# Altium footprint library Button_Switch_SMD.PcbLib: 169 footprints (part 4 of 12)
Each footprint in its own frame and in the unit in brackets; x right, y up, seen from the top. Pads: shape width x height; smd on the part's side, far side on the other; paste and mask are expansions set on the pad; w line width, h text height; cw(c..) or ccw(c..) is an arc to the next point about the centre after c.
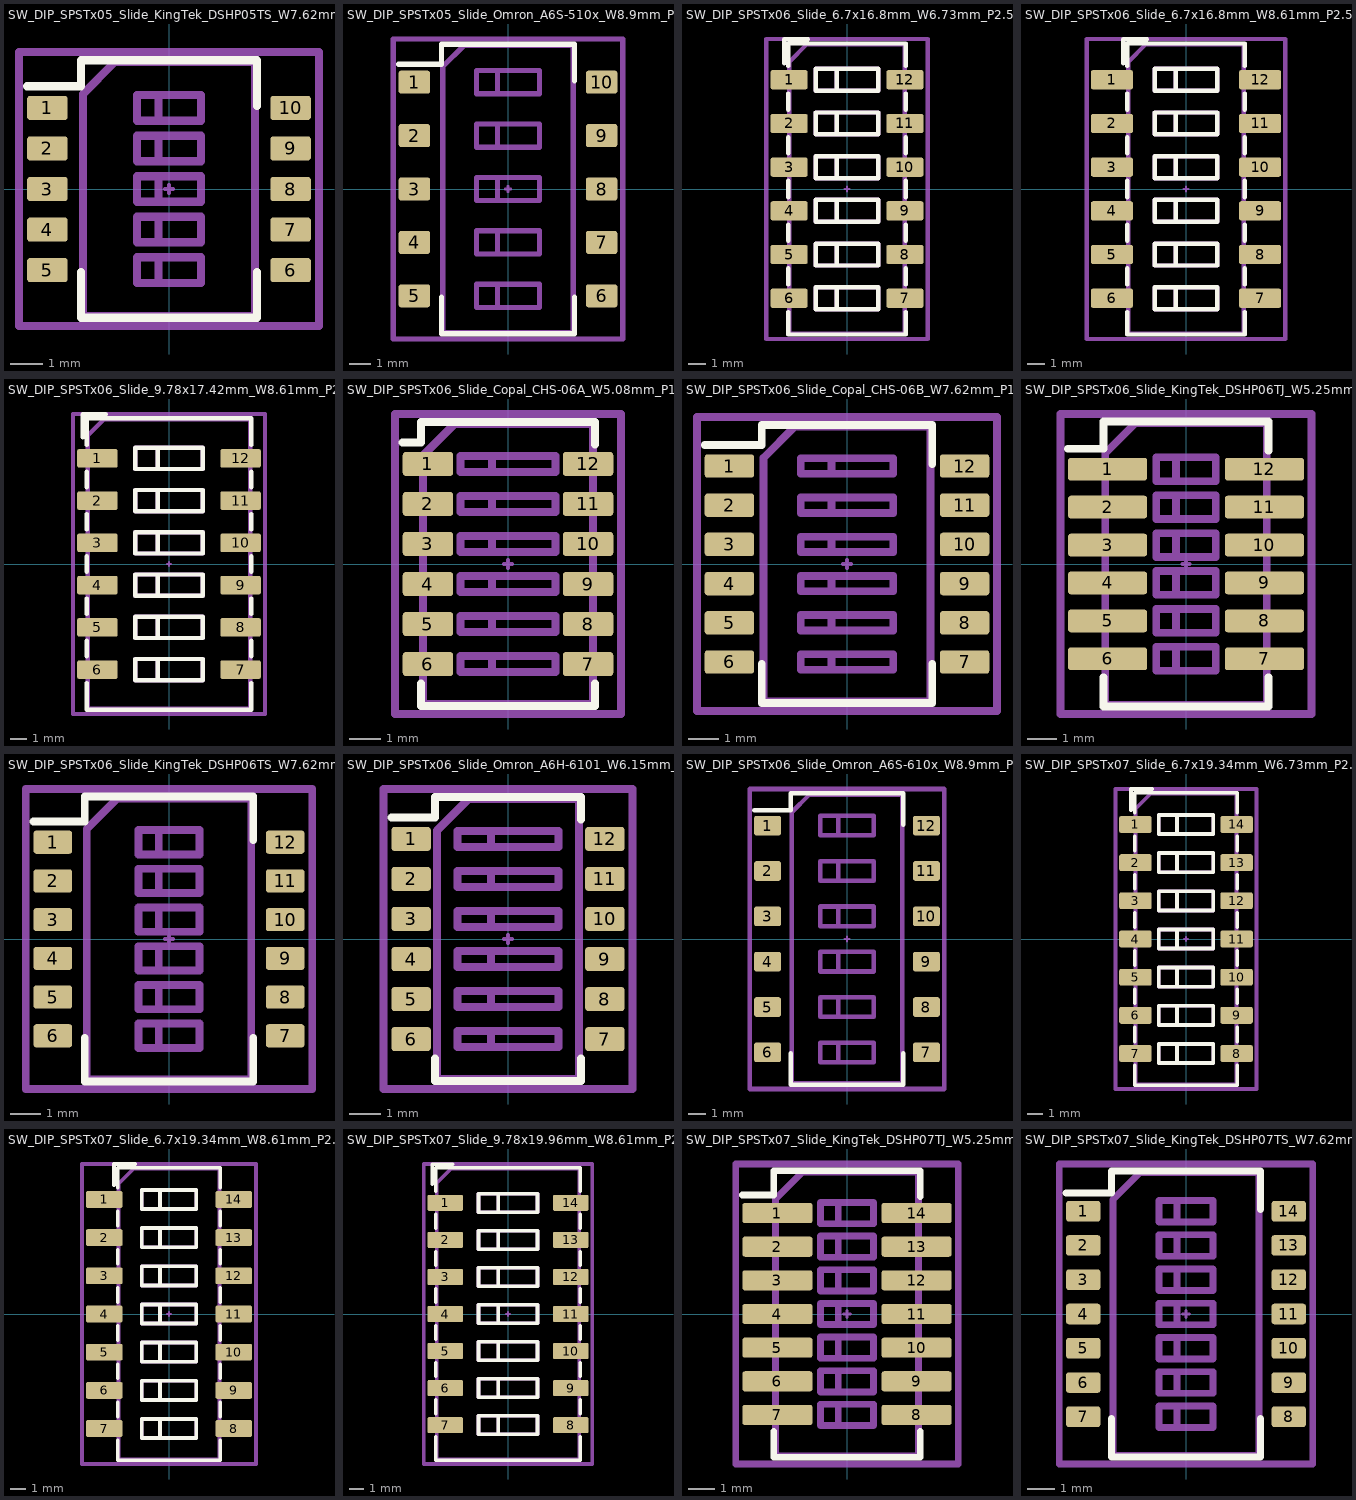
[diagram p3: the footprints below, top view; thin cyan lines are the x and y axes]

## SW_DIP_SPSTx05_Slide_KingTek_DSHP05TS_W7.62mm_P1.27mm [mm] "SW_DIP_SPSTx05_Slide_KingTek_DSHP05TS_W7.62mm_P1.27mm"
pads (10):
  rrect25% 1.27x0.76 smd: 1(-3.81,2.54) 2(-3.81,1.27) 3(-3.81,0) 4(-3.81,-1.27) 5(-3.81,-2.54) 6(3.81,-2.54) 7(3.81,-1.27) 8(3.81,0) 9(3.81,1.27) 10(3.81,2.54)
F.SilkS:
  lines w0.254: -4.445,3.22 -2.76,3.22 -2.76,4.035 2.76,4.035 2.76,2.6 ; -2.76,-2.6 -2.76,-4.035 2.76,-4.035 2.76,-2.6
Top Component Center:
  lines w0.127: -0.127,0 0.127,0 ; 0,-0.127 0,0.127
Top Assembly:
  lines w0.254: -1,-2.94 -1,-2.14 ; -1,-2.94 -0.333,-2.94 ; -1,-2.94 -1,-2.14 ; -1,-2.94 1,-2.94 1,-2.14 -1,-2.14 ; -1,-2.14 -0.333,-2.14 ; -1,-1.67 -1,-0.87 ; -1,-1.67 -0.333,-1.67 ; -1,-1.67 -1,-0.87 ; -1,-1.67 1,-1.67 1,-0.87 -1,-0.87 ; -1,-0.87 -0.333,-0.87 ; -1,-0.4 -1,0.4 ; -1,-0.4 -0.333,-0.4 ; -1,-0.4 -1,0.4 ; -1,-0.4 1,-0.4 1,0.4 -1,0.4 ; -1,0.4 -0.333,0.4 ; -1,0.87 -1,1.67 ; -1,0.87 -0.333,0.87 ; -1,0.87 -1,1.67 ; -1,0.87 1,0.87 1,1.67 -1,1.67 ; -1,1.67 -0.333,1.67 ; -1,2.14 -1,2.94 ; -1,2.14 -0.333,2.14 ; -1,2.14 -1,2.94 ; -1,2.14 1,2.14 1,2.94 -1,2.94 ; -1,2.94 -0.333,2.94 ; -0.333,-2.94 -0.333,-2.14 ; -0.333,-2.94 -0.333,-2.14 ; -0.333,-1.67 -0.333,-0.87 ; -0.333,-1.67 -0.333,-0.87 ; -0.333,-0.4 -0.333,0.4 ; -0.333,-0.4 -0.333,0.4 ; -0.333,0.87 -0.333,1.67 ; -0.333,0.87 -0.333,1.67 ; -0.333,2.14 -0.333,2.94 ; -0.333,2.14 -0.333,2.94 ; -2.7,-3.975 -2.7,2.975 -1.7,3.975 2.7,3.975 2.7,-3.975 -2.7,-3.975
  text "on" at -0.72,3.071 h0.8
Top Courtyard:
  lines w0.254: -4.7,-4.29 -4.7,4.29 4.7,4.29 4.7,-4.29 -4.7,-4.29
Top Designator:
  text ".Designator" at -1.56,-3.559 h1.52
3D body "SW_DIP_SPSTx05_Slide_KingTek_DSHP05TS_W7.62mm_P1.27mm.step": height 2.45, standoff 0.08, extent -3.975,-4.175 3.975,4.175

## SW_DIP_SPSTx05_Slide_Omron_A6S-510x_W8.9mm_P2.54mm [mm] "SW_DIP_SPSTx05_Slide_Omron_A6S-510x_W8.9mm_P2.54mm"
pads (10):
  rrect23% 1.5x1.1 smd: 1(-4.45,5.08) 2(-4.45,2.54) 3(-4.45,0) 4(-4.45,-2.54) 5(-4.45,-5.08) 6(4.45,-5.08) 7(4.45,-2.54) 8(4.45,0) 9(4.45,2.54) 10(4.45,5.08)
F.SilkS:
  lines w0.254: -5.2,5.93 -3.16,5.93 -3.16,6.88 3.16,6.88 3.16,5.14 ; -3.16,-5.14 -3.16,-6.88 3.16,-6.88 3.16,-5.14
Top Component Center:
  lines w0.127: -0.127,0 0.127,0 ; 0,-0.127 0,0.127
Top Assembly:
  lines w0.254: -1.5,-5.63 1.5,-5.63 1.5,-4.53 -1.5,-4.53 ; -1.5,-5.63 -1.5,-4.53 ; -1.5,-5.63 -0.5,-5.63 ; -1.5,-5.63 -1.5,-4.53 ; -1.5,-4.53 -0.5,-4.53 ; -1.5,-3.09 1.5,-3.09 1.5,-1.99 -1.5,-1.99 ; -1.5,-3.09 -1.5,-1.99 ; -1.5,-3.09 -0.5,-3.09 ; -1.5,-3.09 -1.5,-1.99 ; -1.5,-1.99 -0.5,-1.99 ; -1.5,-0.55 1.5,-0.55 1.5,0.55 -1.5,0.55 ; -1.5,-0.55 -1.5,0.55 ; -1.5,-0.55 -0.5,-0.55 ; -1.5,-0.55 -1.5,0.55 ; -1.5,0.55 -0.5,0.55 ; -1.5,1.99 1.5,1.99 1.5,3.09 -1.5,3.09 ; -1.5,1.99 -1.5,3.09 ; -1.5,1.99 -0.5,1.99 ; -1.5,1.99 -1.5,3.09 ; -1.5,3.09 -0.5,3.09 ; -1.5,4.53 1.5,4.53 1.5,5.63 -1.5,5.63 ; -1.5,4.53 -1.5,5.63 ; -1.5,4.53 -0.5,4.53 ; -1.5,4.53 -1.5,5.63 ; -1.5,5.63 -0.5,5.63 ; -0.5,-5.63 -0.5,-4.53 ; -0.5,-5.63 -0.5,-4.53 ; -0.5,-3.09 -0.5,-1.99 ; -0.5,-3.09 -0.5,-1.99 ; -0.5,-0.55 -0.5,0.55 ; -0.5,-0.55 -0.5,0.55 ; -0.5,1.99 -0.5,3.09 ; -0.5,1.99 -0.5,3.09 ; -0.5,4.53 -0.5,5.63 ; -0.5,4.53 -0.5,5.63 ; -3.1,-6.82 3.1,-6.82 3.1,6.82 -2.1,6.82 -3.1,5.82 -3.1,-6.82
  text "on" at -0.59,5.838 h0.8
Top Courtyard:
  lines w0.254: -5.45,-7.13 5.45,-7.13 5.45,7.13 -5.45,7.13 -5.45,-7.13
Top Designator:
  text ".Designator" at -2.504,3.813 h1.52
3D body "SW_DIP_SPSTx05_Slide_Omron_A6S-510x_W8.9mm_P2.54mm.step": height 3.1, standoff 0.03, extent -4.9,-6.82 4.9,6.82

## SW_DIP_SPSTx06_Slide_6.7x16.8mm_W6.73mm_P2.54mm_LowProfile_JPin [mm] "SW_DIP_SPSTx06_Slide_6.7x16.8mm_W6.73mm_P2.54mm_LowProfile_JPin"
pads (12):
  rrect22% 2.16x1.12 smd: 1(-3.365,6.35) 2(-3.365,3.81) 3(-3.365,1.27) 4(-3.365,-1.27) 5(-3.365,-3.81) 6(-3.365,-6.35) 7(3.365,-6.35) 8(3.365,-3.81) 9(3.365,-1.27) 10(3.365,1.27) 11(3.365,3.81) 12(3.365,6.35)
F.SilkS:
  lines w0.254: -3.65,7.317 -3.65,8.7 -2.267,8.7 ; -3.41,-7.15 -3.41,-8.46 3.41,-8.46 3.41,-7.15 ; -3.41,-5.55 -3.41,-4.61 ; -3.41,-3.01 -3.41,-2.07 ; -3.41,-0.47 -3.41,0.47 ; -3.41,2.07 -3.41,3.01 ; -3.41,4.61 -3.41,5.55 ; -3.41,7.15 -3.41,8.46 3.41,8.46 3.41,7.15 ; 3.41,-5.55 3.41,-4.61 ; 3.41,-3.01 3.41,-2.07 ; 3.41,-0.47 3.41,0.47 ; 3.41,2.07 3.41,3.01 ; 3.41,4.61 3.41,5.55 ; -1.81,-6.985 -1.81,-5.715 ; -1.81,-6.985 -0.603,-6.985 ; -1.81,-6.985 -1.81,-5.715 ; -1.81,-6.985 1.81,-6.985 1.81,-5.715 -1.81,-5.715 ; -1.81,-5.715 -0.603,-5.715 ; -1.81,-4.445 -1.81,-3.175 ; -1.81,-4.445 -0.603,-4.445 ; -1.81,-4.445 -1.81,-3.175 ; -1.81,-4.445 1.81,-4.445 1.81,-3.175 -1.81,-3.175 ; -1.81,-3.175 -0.603,-3.175 ; -1.81,-1.905 -1.81,-0.635 ; -1.81,-1.905 -0.603,-1.905 ; -1.81,-1.905 -1.81,-0.635 ; -1.81,-1.905 1.81,-1.905 1.81,-0.635 -1.81,-0.635 ; -1.81,-0.635 -0.603,-0.635 ; -1.81,0.635 -1.81,1.905 ; -1.81,0.635 -0.603,0.635 ; -1.81,0.635 -1.81,1.905 ; -1.81,0.635 1.81,0.635 1.81,1.905 -1.81,1.905 ; -1.81,1.905 -0.603,1.905 ; -1.81,3.175 -1.81,4.445 ; -1.81,3.175 -0.603,3.175 ; -1.81,3.175 -1.81,4.445 ; -1.81,3.175 1.81,3.175 1.81,4.445 -1.81,4.445 ; -1.81,4.445 -0.603,4.445 ; -1.81,5.715 -1.81,6.985 ; -1.81,5.715 -0.603,5.715 ; -1.81,5.715 -1.81,6.985 ; -1.81,5.715 1.81,5.715 1.81,6.985 -1.81,6.985 ; -1.81,6.985 -0.603,6.985 ; -0.603,-6.985 -0.603,-5.715 ; -0.603,-6.985 -0.603,-5.715 ; -0.603,-4.445 -0.603,-3.175 ; -0.603,-4.445 -0.603,-3.175 ; -0.603,-1.905 -0.603,-0.635 ; -0.603,-1.905 -0.603,-0.635 ; -0.603,0.635 -0.603,1.905 ; -0.603,0.635 -0.603,1.905 ; -0.603,3.175 -0.603,4.445 ; -0.603,3.175 -0.603,4.445 ; -0.603,5.715 -0.603,6.985 ; -0.603,5.715 -0.603,6.985
Top Component Center:
  lines w0.127: -0.127,0 0.127,0 ; 0,-0.127 0,0.127
Top Assembly:
  lines w0.254: -1.81,-6.985 -1.81,-5.715 ; -1.81,-6.985 -0.603,-6.985 ; -1.81,-6.985 -1.81,-5.715 ; -1.81,-6.985 1.81,-6.985 1.81,-5.715 -1.81,-5.715 ; -1.81,-5.715 -0.603,-5.715 ; -1.81,-4.445 -1.81,-3.175 ; -1.81,-4.445 -0.603,-4.445 ; -1.81,-4.445 -1.81,-3.175 ; -1.81,-4.445 1.81,-4.445 1.81,-3.175 -1.81,-3.175 ; -1.81,-3.175 -0.603,-3.175 ; -1.81,-1.905 -1.81,-0.635 ; -1.81,-1.905 -0.603,-1.905 ; -1.81,-1.905 -1.81,-0.635 ; -1.81,-1.905 1.81,-1.905 1.81,-0.635 -1.81,-0.635 ; -1.81,-0.635 -0.603,-0.635 ; -1.81,0.635 -1.81,1.905 ; -1.81,0.635 -0.603,0.635 ; -1.81,0.635 -1.81,1.905 ; -1.81,0.635 1.81,0.635 1.81,1.905 -1.81,1.905 ; -1.81,1.905 -0.603,1.905 ; -1.81,3.175 -1.81,4.445 ; -1.81,3.175 -0.603,3.175 ; -1.81,3.175 -1.81,4.445 ; -1.81,3.175 1.81,3.175 1.81,4.445 -1.81,4.445 ; -1.81,4.445 -0.603,4.445 ; -1.81,5.715 -1.81,6.985 ; -1.81,5.715 -0.603,5.715 ; -1.81,5.715 -1.81,6.985 ; -1.81,5.715 1.81,5.715 1.81,6.985 -1.81,6.985 ; -1.81,6.985 -0.603,6.985 ; -0.603,-6.985 -0.603,-5.715 ; -0.603,-6.985 -0.603,-5.715 ; -0.603,-4.445 -0.603,-3.175 ; -0.603,-4.445 -0.603,-3.175 ; -0.603,-1.905 -0.603,-0.635 ; -0.603,-1.905 -0.603,-0.635 ; -0.603,0.635 -0.603,1.905 ; -0.603,0.635 -0.603,1.905 ; -0.603,3.175 -0.603,4.445 ; -0.603,3.175 -0.603,4.445 ; -0.603,5.715 -0.603,6.985 ; -0.603,5.715 -0.603,6.985 ; -3.35,-8.4 -3.35,7.4 -2.35,8.4 3.35,8.4 3.35,-8.4 -3.35,-8.4
  text "on" at 0.233,7.306 h0.8
Top Courtyard:
  lines w0.254: -4.7,-8.72 -4.7,8.72 4.7,8.72 4.7,-8.72 -4.7,-8.72
Top Designator:
  text ".Designator" at -3.432,-0.345 h1.52
3D body "SW_DIP_SPSTx06_Slide_6.7x16.8mm_W6.73mm_P2.54mm_LowProfile_JPin.step": height 3.2, standoff -0.1, extent -3.45,-8.4 3.45,8.4

## SW_DIP_SPSTx06_Slide_6.7x16.8mm_W8.61mm_P2.54mm_LowProfile [mm] "SW_DIP_SPSTx06_Slide_6.7x16.8mm_W8.61mm_P2.54mm_LowProfile"
pads (12):
  rrect22% 2.44x1.12 smd: 1(-4.305,6.35) 2(-4.305,3.81) 3(-4.305,1.27) 4(-4.305,-1.27) 5(-4.305,-3.81) 6(-4.305,-6.35) 7(4.305,-6.35) 8(4.305,-3.81) 9(4.305,-1.27) 10(4.305,1.27) 11(4.305,3.81) 12(4.305,6.35)
F.SilkS:
  lines w0.254: -3.65,7.317 -3.65,8.7 -2.267,8.7 ; -3.41,-7.15 -3.41,-8.46 3.41,-8.46 3.41,-7.15 ; -3.41,-5.55 -3.41,-4.61 ; -3.41,-3.01 -3.41,-2.07 ; -3.41,-0.47 -3.41,0.47 ; -3.41,2.07 -3.41,3.01 ; -3.41,4.61 -3.41,5.55 ; -3.41,7.15 -3.41,8.46 3.41,8.46 3.41,7.15 ; 3.41,-5.55 3.41,-4.61 ; 3.41,-3.01 3.41,-2.07 ; 3.41,-0.47 3.41,0.47 ; 3.41,2.07 3.41,3.01 ; 3.41,4.61 3.41,5.55 ; -1.81,-6.985 -1.81,-5.715 ; -1.81,-6.985 -0.603,-6.985 ; -1.81,-6.985 -1.81,-5.715 ; -1.81,-6.985 1.81,-6.985 1.81,-5.715 -1.81,-5.715 ; -1.81,-5.715 -0.603,-5.715 ; -1.81,-4.445 -1.81,-3.175 ; -1.81,-4.445 -0.603,-4.445 ; -1.81,-4.445 -1.81,-3.175 ; -1.81,-4.445 1.81,-4.445 1.81,-3.175 -1.81,-3.175 ; -1.81,-3.175 -0.603,-3.175 ; -1.81,-1.905 -1.81,-0.635 ; -1.81,-1.905 -0.603,-1.905 ; -1.81,-1.905 -1.81,-0.635 ; -1.81,-1.905 1.81,-1.905 1.81,-0.635 -1.81,-0.635 ; -1.81,-0.635 -0.603,-0.635 ; -1.81,0.635 -1.81,1.905 ; -1.81,0.635 -0.603,0.635 ; -1.81,0.635 -1.81,1.905 ; -1.81,0.635 1.81,0.635 1.81,1.905 -1.81,1.905 ; -1.81,1.905 -0.603,1.905 ; -1.81,3.175 -1.81,4.445 ; -1.81,3.175 -0.603,3.175 ; -1.81,3.175 -1.81,4.445 ; -1.81,3.175 1.81,3.175 1.81,4.445 -1.81,4.445 ; -1.81,4.445 -0.603,4.445 ; -1.81,5.715 -1.81,6.985 ; -1.81,5.715 -0.603,5.715 ; -1.81,5.715 -1.81,6.985 ; -1.81,5.715 1.81,5.715 1.81,6.985 -1.81,6.985 ; -1.81,6.985 -0.603,6.985 ; -0.603,-6.985 -0.603,-5.715 ; -0.603,-6.985 -0.603,-5.715 ; -0.603,-4.445 -0.603,-3.175 ; -0.603,-4.445 -0.603,-3.175 ; -0.603,-1.905 -0.603,-0.635 ; -0.603,-1.905 -0.603,-0.635 ; -0.603,0.635 -0.603,1.905 ; -0.603,0.635 -0.603,1.905 ; -0.603,3.175 -0.603,4.445 ; -0.603,3.175 -0.603,4.445 ; -0.603,5.715 -0.603,6.985 ; -0.603,5.715 -0.603,6.985
Top Component Center:
  lines w0.127: -0.127,0 0.127,0 ; 0,-0.127 0,0.127
Top Assembly:
  lines w0.254: -1.81,-6.985 -1.81,-5.715 ; -1.81,-6.985 -0.603,-6.985 ; -1.81,-6.985 -1.81,-5.715 ; -1.81,-6.985 1.81,-6.985 1.81,-5.715 -1.81,-5.715 ; -1.81,-5.715 -0.603,-5.715 ; -1.81,-4.445 -1.81,-3.175 ; -1.81,-4.445 -0.603,-4.445 ; -1.81,-4.445 -1.81,-3.175 ; -1.81,-4.445 1.81,-4.445 1.81,-3.175 -1.81,-3.175 ; -1.81,-3.175 -0.603,-3.175 ; -1.81,-1.905 -1.81,-0.635 ; -1.81,-1.905 -0.603,-1.905 ; -1.81,-1.905 -1.81,-0.635 ; -1.81,-1.905 1.81,-1.905 1.81,-0.635 -1.81,-0.635 ; -1.81,-0.635 -0.603,-0.635 ; -1.81,0.635 -1.81,1.905 ; -1.81,0.635 -0.603,0.635 ; -1.81,0.635 -1.81,1.905 ; -1.81,0.635 1.81,0.635 1.81,1.905 -1.81,1.905 ; -1.81,1.905 -0.603,1.905 ; -1.81,3.175 -1.81,4.445 ; -1.81,3.175 -0.603,3.175 ; -1.81,3.175 -1.81,4.445 ; -1.81,3.175 1.81,3.175 1.81,4.445 -1.81,4.445 ; -1.81,4.445 -0.603,4.445 ; -1.81,5.715 -1.81,6.985 ; -1.81,5.715 -0.603,5.715 ; -1.81,5.715 -1.81,6.985 ; -1.81,5.715 1.81,5.715 1.81,6.985 -1.81,6.985 ; -1.81,6.985 -0.603,6.985 ; -0.603,-6.985 -0.603,-5.715 ; -0.603,-6.985 -0.603,-5.715 ; -0.603,-4.445 -0.603,-3.175 ; -0.603,-4.445 -0.603,-3.175 ; -0.603,-1.905 -0.603,-0.635 ; -0.603,-1.905 -0.603,-0.635 ; -0.603,0.635 -0.603,1.905 ; -0.603,0.635 -0.603,1.905 ; -0.603,3.175 -0.603,4.445 ; -0.603,3.175 -0.603,4.445 ; -0.603,5.715 -0.603,6.985 ; -0.603,5.715 -0.603,6.985 ; -3.35,-8.4 -3.35,7.4 -2.35,8.4 3.35,8.4 3.35,-8.4 -3.35,-8.4
  text "on" at -0.237,7.306 h0.8
Top Courtyard:
  lines w0.254: -5.78,-8.72 -5.78,8.72 5.78,8.72 5.78,-8.72 -5.78,-8.72
Top Designator:
  text ".Designator" at -3.432,-0.345 h1.52
3D body "SW_DIP_SPSTx06_Slide_6.7x16.8mm_W8.61mm_P2.54mm_LowProfile.step": height 2.7, standoff 0, extent -4.305,-8.4 4.305,8.4

## SW_DIP_SPSTx06_Slide_9.78x17.42mm_W8.61mm_P2.54mm [mm] "SW_DIP_SPSTx06_Slide_9.78x17.42mm_W8.61mm_P2.54mm"
pads (12):
  rrect22% 2.44x1.12 smd: 1(-4.305,6.35) 2(-4.305,3.81) 3(-4.305,1.27) 4(-4.305,-1.27) 5(-4.305,-3.81) 6(-4.305,-6.35) 7(4.305,-6.35) 8(4.305,-3.81) 9(4.305,-1.27) 10(4.305,1.27) 11(4.305,3.81) 12(4.305,6.35)
F.SilkS:
  lines w0.254: -5.19,7.627 -5.19,9.01 -3.807,9.01 ; -4.95,-7.15 -4.95,-8.77 4.95,-8.77 4.95,-7.15 ; -4.95,-5.55 -4.95,-4.61 ; -4.95,-3.01 -4.95,-2.07 ; -4.95,-0.47 -4.95,0.47 ; -4.95,2.07 -4.95,3.01 ; -4.95,4.61 -4.95,5.55 ; -4.95,7.15 -4.95,8.77 4.95,8.77 4.95,7.15 ; 4.95,-5.55 4.95,-4.61 ; 4.95,-3.01 4.95,-2.07 ; 4.95,-0.47 4.95,0.47 ; 4.95,2.07 4.95,3.01 ; 4.95,4.61 4.95,5.55 ; -2.03,-6.985 2.03,-6.985 2.03,-5.715 -2.03,-5.715 ; -2.03,-6.985 -2.03,-5.715 ; -2.03,-6.985 -0.677,-6.985 ; -2.03,-6.985 -2.03,-5.715 ; -2.03,-5.715 -0.677,-5.715 ; -2.03,-4.445 2.03,-4.445 2.03,-3.175 -2.03,-3.175 ; -2.03,-4.445 -2.03,-3.175 ; -2.03,-4.445 -0.677,-4.445 ; -2.03,-4.445 -2.03,-3.175 ; -2.03,-3.175 -0.677,-3.175 ; -2.03,-1.905 2.03,-1.905 2.03,-0.635 -2.03,-0.635 ; -2.03,-1.905 -2.03,-0.635 ; -2.03,-1.905 -0.677,-1.905 ; -2.03,-1.905 -2.03,-0.635 ; -2.03,-0.635 -0.677,-0.635 ; -2.03,0.635 2.03,0.635 2.03,1.905 -2.03,1.905 ; -2.03,0.635 -2.03,1.905 ; -2.03,0.635 -0.677,0.635 ; -2.03,0.635 -2.03,1.905 ; -2.03,1.905 -0.677,1.905 ; -2.03,3.175 2.03,3.175 2.03,4.445 -2.03,4.445 ; -2.03,3.175 -2.03,4.445 ; -2.03,3.175 -0.677,3.175 ; -2.03,3.175 -2.03,4.445 ; -2.03,4.445 -0.677,4.445 ; -2.03,5.715 2.03,5.715 2.03,6.985 -2.03,6.985 ; -2.03,5.715 -2.03,6.985 ; -2.03,5.715 -0.677,5.715 ; -2.03,5.715 -2.03,6.985 ; -2.03,6.985 -0.677,6.985 ; -0.677,-6.985 -0.677,-5.715 ; -0.677,-6.985 -0.677,-5.715 ; -0.677,-4.445 -0.677,-3.175 ; -0.677,-4.445 -0.677,-3.175 ; -0.677,-1.905 -0.677,-0.635 ; -0.677,-1.905 -0.677,-0.635 ; -0.677,0.635 -0.677,1.905 ; -0.677,0.635 -0.677,1.905 ; -0.677,3.175 -0.677,4.445 ; -0.677,3.175 -0.677,4.445 ; -0.677,5.715 -0.677,6.985 ; -0.677,5.715 -0.677,6.985
Top Component Center:
  lines w0.127: -0.127,0 0.127,0 ; 0,-0.127 0,0.127
Top Assembly:
  lines w0.254: -2.03,-6.985 2.03,-6.985 2.03,-5.715 -2.03,-5.715 ; -2.03,-6.985 -2.03,-5.715 ; -2.03,-6.985 -0.677,-6.985 ; -2.03,-6.985 -2.03,-5.715 ; -2.03,-5.715 -0.677,-5.715 ; -2.03,-4.445 2.03,-4.445 2.03,-3.175 -2.03,-3.175 ; -2.03,-4.445 -2.03,-3.175 ; -2.03,-4.445 -0.677,-4.445 ; -2.03,-4.445 -2.03,-3.175 ; -2.03,-3.175 -0.677,-3.175 ; -2.03,-1.905 2.03,-1.905 2.03,-0.635 -2.03,-0.635 ; -2.03,-1.905 -2.03,-0.635 ; -2.03,-1.905 -0.677,-1.905 ; -2.03,-1.905 -2.03,-0.635 ; -2.03,-0.635 -0.677,-0.635 ; -2.03,0.635 2.03,0.635 2.03,1.905 -2.03,1.905 ; -2.03,0.635 -2.03,1.905 ; -2.03,0.635 -0.677,0.635 ; -2.03,0.635 -2.03,1.905 ; -2.03,1.905 -0.677,1.905 ; -2.03,3.175 2.03,3.175 2.03,4.445 -2.03,4.445 ; -2.03,3.175 -2.03,4.445 ; -2.03,3.175 -0.677,3.175 ; -2.03,3.175 -2.03,4.445 ; -2.03,4.445 -0.677,4.445 ; -2.03,5.715 2.03,5.715 2.03,6.985 -2.03,6.985 ; -2.03,5.715 -2.03,6.985 ; -2.03,5.715 -0.677,5.715 ; -2.03,5.715 -2.03,6.985 ; -2.03,6.985 -0.677,6.985 ; -0.677,-6.985 -0.677,-5.715 ; -0.677,-6.985 -0.677,-5.715 ; -0.677,-4.445 -0.677,-3.175 ; -0.677,-4.445 -0.677,-3.175 ; -0.677,-1.905 -0.677,-0.635 ; -0.677,-1.905 -0.677,-0.635 ; -0.677,0.635 -0.677,1.905 ; -0.677,0.635 -0.677,1.905 ; -0.677,3.175 -0.677,4.445 ; -0.677,3.175 -0.677,4.445 ; -0.677,5.715 -0.677,6.985 ; -0.677,5.715 -0.677,6.985 ; -4.89,-8.71 4.89,-8.71 4.89,8.71 -3.89,8.71 -4.89,7.71 -4.89,-8.71
  text "on" at 0.643,7.461 h0.8
Top Courtyard:
  lines w0.254: -5.78,-9.02 5.78,-9.02 5.78,9.02 -5.78,9.02 -5.78,-9.02
Top Designator:
  text ".Designator" at -3.432,-0.345 h1.52
3D body "SW_DIP_SPSTx06_Slide_9.78x17.42mm_W8.61mm_P2.54mm.step": height 8.6, standoff 0, extent -5.2,-8.71 5.2,8.71

## SW_DIP_SPSTx06_Slide_Copal_CHS-06A_W5.08mm_P1.27mm_JPin [mm] "SW_DIP_SPSTx06_Slide_Copal_CHS-06A_W5.08mm_P1.27mm_JPin"
pads (12):
  rrect25% 1.6x0.76 smd: 1(-2.54,3.175) 2(-2.54,1.905) 3(-2.54,0.635) 4(-2.54,-0.635) 5(-2.54,-1.905) 6(-2.54,-3.175) 7(2.54,-3.175) 8(2.54,-1.905) 9(2.54,-0.635) 10(2.54,0.635) 11(2.54,1.905) 12(2.54,3.175)
F.SilkS:
  lines w0.254: -3.34,3.855 -2.76,3.855 -2.76,4.505 2.76,4.505 2.76,3.795 ; -2.76,-3.795 -2.76,-4.505 2.76,-4.505 2.76,-3.795
Top Component Center:
  lines w0.127: -0.127,0 0.127,0 ; 0,-0.127 0,0.127
Top Assembly:
  lines w0.254: -1.5,-3.425 -1.5,-2.925 ; -1.5,-3.425 -0.5,-3.425 ; -1.5,-3.425 -1.5,-2.925 ; -1.5,-3.425 1.5,-3.425 1.5,-2.925 -1.5,-2.925 ; -1.5,-2.925 -0.5,-2.925 ; -1.5,-2.155 -1.5,-1.655 ; -1.5,-2.155 -0.5,-2.155 ; -1.5,-2.155 -1.5,-1.655 ; -1.5,-2.155 1.5,-2.155 1.5,-1.655 -1.5,-1.655 ; -1.5,-1.655 -0.5,-1.655 ; -1.5,-0.885 -1.5,-0.385 ; -1.5,-0.885 -0.5,-0.885 ; -1.5,-0.885 -1.5,-0.385 ; -1.5,-0.885 1.5,-0.885 1.5,-0.385 -1.5,-0.385 ; -1.5,-0.385 -0.5,-0.385 ; -1.5,0.385 -1.5,0.885 ; -1.5,0.385 -0.5,0.385 ; -1.5,0.385 -1.5,0.885 ; -1.5,0.385 1.5,0.385 1.5,0.885 -1.5,0.885 ; -1.5,0.885 -0.5,0.885 ; -1.5,1.655 -1.5,2.155 ; -1.5,1.655 -0.5,1.655 ; -1.5,1.655 -1.5,2.155 ; -1.5,1.655 1.5,1.655 1.5,2.155 -1.5,2.155 ; -1.5,2.155 -0.5,2.155 ; -1.5,2.925 -1.5,3.425 ; -1.5,2.925 -0.5,2.925 ; -1.5,2.925 -1.5,3.425 ; -1.5,2.925 1.5,2.925 1.5,3.425 -1.5,3.425 ; -1.5,3.425 -0.5,3.425 ; -0.5,-3.425 -0.5,-2.925 ; -0.5,-3.425 -0.5,-2.925 ; -0.5,-2.155 -0.5,-1.655 ; -0.5,-2.155 -0.5,-1.655 ; -0.5,-0.885 -0.5,-0.385 ; -0.5,-0.885 -0.5,-0.385 ; -0.5,0.385 -0.5,0.885 ; -0.5,0.385 -0.5,0.885 ; -0.5,1.655 -0.5,2.155 ; -0.5,1.655 -0.5,2.155 ; -0.5,2.925 -0.5,3.425 ; -0.5,2.925 -0.5,3.425 ; -2.7,-4.445 -2.7,3.445 -1.7,4.445 2.7,4.445 2.7,-4.445 -2.7,-4.445
  text "on" at 0.165,3.548 h0.8
Top Courtyard:
  lines w0.254: -3.59,-4.76 -3.59,4.76 3.59,4.76 3.59,-4.76 -3.59,-4.76
Top Designator:
  text ".Designator" at -0.345,3.432 h1.52
3D body "SW_DIP_SPSTx06_Slide_Copal_CHS-06A_W5.08mm_P1.27mm_JPin.step": height 2.65, standoff 0, extent -2.8,-4.425 2.8,4.425

## SW_DIP_SPSTx06_Slide_Copal_CHS-06B_W7.62mm_P1.27mm [mm] "SW_DIP_SPSTx06_Slide_Copal_CHS-06B_W7.62mm_P1.27mm"
pads (12):
  rrect25% 1.6x0.76 smd: 1(-3.81,3.175) 2(-3.81,1.905) 3(-3.81,0.635) 4(-3.81,-0.635) 5(-3.81,-1.905) 6(-3.81,-3.175) 7(3.81,-3.175) 8(3.81,-1.905) 9(3.81,-0.635) 10(3.81,0.635) 11(3.81,1.905) 12(3.81,3.175)
F.SilkS:
  lines w0.254: -4.61,3.855 -2.76,3.855 -2.76,4.505 2.76,4.505 2.76,3.235 ; -2.76,-3.235 -2.76,-4.505 2.76,-4.505 2.76,-3.235
Top Component Center:
  lines w0.127: -0.127,0 0.127,0 ; 0,-0.127 0,0.127
Top Assembly:
  lines w0.254: -1.5,-3.425 -1.5,-2.925 ; -1.5,-3.425 -0.5,-3.425 ; -1.5,-3.425 -1.5,-2.925 ; -1.5,-3.425 1.5,-3.425 1.5,-2.925 -1.5,-2.925 ; -1.5,-2.925 -0.5,-2.925 ; -1.5,-2.155 -1.5,-1.655 ; -1.5,-2.155 -0.5,-2.155 ; -1.5,-2.155 -1.5,-1.655 ; -1.5,-2.155 1.5,-2.155 1.5,-1.655 -1.5,-1.655 ; -1.5,-1.655 -0.5,-1.655 ; -1.5,-0.885 -1.5,-0.385 ; -1.5,-0.885 -0.5,-0.885 ; -1.5,-0.885 -1.5,-0.385 ; -1.5,-0.885 1.5,-0.885 1.5,-0.385 -1.5,-0.385 ; -1.5,-0.385 -0.5,-0.385 ; -1.5,0.385 -1.5,0.885 ; -1.5,0.385 -0.5,0.385 ; -1.5,0.385 -1.5,0.885 ; -1.5,0.385 1.5,0.385 1.5,0.885 -1.5,0.885 ; -1.5,0.885 -0.5,0.885 ; -1.5,1.655 -1.5,2.155 ; -1.5,1.655 -0.5,1.655 ; -1.5,1.655 -1.5,2.155 ; -1.5,1.655 1.5,1.655 1.5,2.155 -1.5,2.155 ; -1.5,2.155 -0.5,2.155 ; -1.5,2.925 -1.5,3.425 ; -1.5,2.925 -0.5,2.925 ; -1.5,2.925 -1.5,3.425 ; -1.5,2.925 1.5,2.925 1.5,3.425 -1.5,3.425 ; -1.5,3.425 -0.5,3.425 ; -0.5,-3.425 -0.5,-2.925 ; -0.5,-3.425 -0.5,-2.925 ; -0.5,-2.155 -0.5,-1.655 ; -0.5,-2.155 -0.5,-1.655 ; -0.5,-0.885 -0.5,-0.385 ; -0.5,-0.885 -0.5,-0.385 ; -0.5,0.385 -0.5,0.885 ; -0.5,0.385 -0.5,0.885 ; -0.5,1.655 -0.5,2.155 ; -0.5,1.655 -0.5,2.155 ; -0.5,2.925 -0.5,3.425 ; -0.5,2.925 -0.5,3.425 ; -2.7,-4.445 -2.7,3.445 -1.7,4.445 2.7,4.445 2.7,-4.445 -2.7,-4.445
  text "on" at -0.47,3.548 h0.8
Top Courtyard:
  lines w0.254: -4.86,-4.76 -4.86,4.76 4.86,4.76 4.86,-4.76 -4.86,-4.76
Top Designator:
  text ".Designator" at -0.345,3.432 h1.52
3D body "SW_DIP_SPSTx06_Slide_Copal_CHS-06B_W7.62mm_P1.27mm.step": height 2.6, standoff 0.03, extent -4,-4.425 4,4.425

## SW_DIP_SPSTx06_Slide_KingTek_DSHP06TJ_W5.25mm_P1.27mm_JPin [mm] "SW_DIP_SPSTx06_Slide_KingTek_DSHP06TJ_W5.25mm_P1.27mm_JPin"
pads (12):
  rrect25% 2.65x0.76 smd: 1(-2.625,3.175) 2(-2.625,1.905) 3(-2.625,0.635) 4(-2.625,-0.635) 5(-2.625,-1.905) 6(-2.625,-3.175) 7(2.625,-3.175) 8(2.625,-1.905) 9(2.625,-0.635) 10(2.625,0.635) 11(2.625,1.905) 12(2.625,3.175)
F.SilkS:
  lines w0.254: -3.95,3.855 -2.76,3.855 -2.76,4.77 2.76,4.77 2.76,3.795 ; -2.76,-3.795 -2.76,-4.77 2.76,-4.77 2.76,-3.795
Top Component Center:
  lines w0.127: -0.127,0 0.127,0 ; 0,-0.127 0,0.127
Top Assembly:
  lines w0.254: -1,-3.575 -1,-2.775 ; -1,-3.575 -0.333,-3.575 ; -1,-3.575 -1,-2.775 ; -1,-3.575 1,-3.575 1,-2.775 -1,-2.775 ; -1,-2.775 -0.333,-2.775 ; -1,-2.305 -1,-1.505 ; -1,-2.305 -0.333,-2.305 ; -1,-2.305 -1,-1.505 ; -1,-2.305 1,-2.305 1,-1.505 -1,-1.505 ; -1,-1.505 -0.333,-1.505 ; -1,-1.035 -1,-0.235 ; -1,-1.035 -0.333,-1.035 ; -1,-1.035 -1,-0.235 ; -1,-1.035 1,-1.035 1,-0.235 -1,-0.235 ; -1,-0.235 -0.333,-0.235 ; -1,0.235 -1,1.035 ; -1,0.235 -0.333,0.235 ; -1,0.235 -1,1.035 ; -1,0.235 1,0.235 1,1.035 -1,1.035 ; -1,1.035 -0.333,1.035 ; -1,1.505 -1,2.305 ; -1,1.505 -0.333,1.505 ; -1,1.505 -1,2.305 ; -1,1.505 1,1.505 1,2.305 -1,2.305 ; -1,2.305 -0.333,2.305 ; -1,2.775 -1,3.575 ; -1,2.775 -0.333,2.775 ; -1,2.775 -1,3.575 ; -1,2.775 1,2.775 1,3.575 -1,3.575 ; -1,3.575 -0.333,3.575 ; -0.333,-3.575 -0.333,-2.775 ; -0.333,-3.575 -0.333,-2.775 ; -0.333,-2.305 -0.333,-1.505 ; -0.333,-2.305 -0.333,-1.505 ; -0.333,-1.035 -0.333,-0.235 ; -0.333,-1.035 -0.333,-0.235 ; -0.333,0.235 -0.333,1.035 ; -0.333,0.235 -0.333,1.035 ; -0.333,1.505 -0.333,2.305 ; -0.333,1.505 -0.333,2.305 ; -0.333,2.775 -0.333,3.575 ; -0.333,2.775 -0.333,3.575 ; -2.7,-4.71 -2.7,3.71 -1.7,4.71 2.7,4.71 2.7,-4.71 -2.7,-4.71
  text "on" at -0.127,3.756 h0.8
Top Courtyard:
  lines w0.254: -4.2,-5.02 -4.2,5.02 4.2,5.02 4.2,-5.02 -4.2,-5.02
Top Designator:
  text ".Designator" at -0.345,3.432 h1.52
3D body "SW_DIP_SPSTx06_Slide_KingTek_DSHP06TJ_W5.25mm_P1.27mm_JPin.step": height 2.4, standoff -0.05, extent -2.8,-4.61 2.8,4.61

## SW_DIP_SPSTx06_Slide_KingTek_DSHP06TS_W7.62mm_P1.27mm [mm] "SW_DIP_SPSTx06_Slide_KingTek_DSHP06TS_W7.62mm_P1.27mm"
pads (12):
  rrect25% 1.27x0.76 smd: 1(-3.81,3.175) 2(-3.81,1.905) 3(-3.81,0.635) 4(-3.81,-0.635) 5(-3.81,-1.905) 6(-3.81,-3.175) 7(3.81,-3.175) 8(3.81,-1.905) 9(3.81,-0.635) 10(3.81,0.635) 11(3.81,1.905) 12(3.81,3.175)
F.SilkS:
  lines w0.254: -4.445,3.855 -2.76,3.855 -2.76,4.67 2.76,4.67 2.76,3.235 ; -2.76,-3.235 -2.76,-4.67 2.76,-4.67 2.76,-3.235
Top Component Center:
  lines w0.127: -0.127,0 0.127,0 ; 0,-0.127 0,0.127
Top Assembly:
  lines w0.254: -1,-3.575 1,-3.575 1,-2.775 -1,-2.775 ; -1,-3.575 -1,-2.775 ; -1,-3.575 -0.333,-3.575 ; -1,-3.575 -1,-2.775 ; -1,-2.775 -0.333,-2.775 ; -1,-2.305 1,-2.305 1,-1.505 -1,-1.505 ; -1,-2.305 -1,-1.505 ; -1,-2.305 -0.333,-2.305 ; -1,-2.305 -1,-1.505 ; -1,-1.505 -0.333,-1.505 ; -1,-1.035 1,-1.035 1,-0.235 -1,-0.235 ; -1,-1.035 -1,-0.235 ; -1,-1.035 -0.333,-1.035 ; -1,-1.035 -1,-0.235 ; -1,-0.235 -0.333,-0.235 ; -1,0.235 1,0.235 1,1.035 -1,1.035 ; -1,0.235 -1,1.035 ; -1,0.235 -0.333,0.235 ; -1,0.235 -1,1.035 ; -1,1.035 -0.333,1.035 ; -1,1.505 1,1.505 1,2.305 -1,2.305 ; -1,1.505 -1,2.305 ; -1,1.505 -0.333,1.505 ; -1,1.505 -1,2.305 ; -1,2.305 -0.333,2.305 ; -1,2.775 1,2.775 1,3.575 -1,3.575 ; -1,2.775 -1,3.575 ; -1,2.775 -0.333,2.775 ; -1,2.775 -1,3.575 ; -1,3.575 -0.333,3.575 ; -0.333,-3.575 -0.333,-2.775 ; -0.333,-3.575 -0.333,-2.775 ; -0.333,-2.305 -0.333,-1.505 ; -0.333,-2.305 -0.333,-1.505 ; -0.333,-1.035 -0.333,-0.235 ; -0.333,-1.035 -0.333,-0.235 ; -0.333,0.235 -0.333,1.035 ; -0.333,0.235 -0.333,1.035 ; -0.333,1.505 -0.333,2.305 ; -0.333,1.505 -0.333,2.305 ; -0.333,2.775 -0.333,3.575 ; -0.333,2.775 -0.333,3.575 ; -2.7,-4.61 2.7,-4.61 2.7,4.61 -1.7,4.61 -2.7,3.61 -2.7,-4.61
  text "on" at -0.72,3.706 h0.8
Top Courtyard:
  lines w0.254: -4.7,-4.92 4.7,-4.92 4.7,4.92 -4.7,4.92 -4.7,-4.92
Top Designator:
  text ".Designator" at -2.123,3.432 h1.52
3D body "SW_DIP_SPSTx06_Slide_KingTek_DSHP06TS_W7.62mm_P1.27mm.step": height 2.45, standoff 0.08, extent -4.175,-4.61 4.175,4.61

## SW_DIP_SPSTx06_Slide_Omron_A6H-6101_W6.15mm_P1.27mm [mm] "SW_DIP_SPSTx06_Slide_Omron_A6H-6101_W6.15mm_P1.27mm"
pads (12):
  rrect25% 1.25x0.76 smd: 1(-3.075,3.175) 2(-3.075,1.905) 3(-3.075,0.635) 4(-3.075,-0.635) 5(-3.075,-1.905) 6(-3.075,-3.175) 7(3.075,-3.175) 8(3.075,-1.905) 9(3.075,-0.635) 10(3.075,0.635) 11(3.075,1.905) 12(3.075,3.175)
F.SilkS:
  lines w0.254: -3.7,3.855 -2.31,3.855 -2.31,4.505 2.31,4.505 2.31,3.795 ; -2.31,-3.795 -2.31,-4.505 2.31,-4.505 2.31,-3.795
Top Component Center:
  lines w0.127: -0.127,0 0.127,0 ; 0,-0.127 0,0.127
Top Assembly:
  lines w0.254: -1.6,-3.425 -1.6,-2.925 ; -1.6,-3.425 -0.533,-3.425 ; -1.6,-3.425 -1.6,-2.925 ; -1.6,-3.425 1.6,-3.425 1.6,-2.925 -1.6,-2.925 ; -1.6,-2.925 -0.533,-2.925 ; -1.6,-2.155 -1.6,-1.655 ; -1.6,-2.155 -0.533,-2.155 ; -1.6,-2.155 -1.6,-1.655 ; -1.6,-2.155 1.6,-2.155 1.6,-1.655 -1.6,-1.655 ; -1.6,-1.655 -0.533,-1.655 ; -1.6,-0.885 -1.6,-0.385 ; -1.6,-0.885 -0.533,-0.885 ; -1.6,-0.885 -1.6,-0.385 ; -1.6,-0.885 1.6,-0.885 1.6,-0.385 -1.6,-0.385 ; -1.6,-0.385 -0.533,-0.385 ; -1.6,0.385 -1.6,0.885 ; -1.6,0.385 -0.533,0.385 ; -1.6,0.385 -1.6,0.885 ; -1.6,0.385 1.6,0.385 1.6,0.885 -1.6,0.885 ; -1.6,0.885 -0.533,0.885 ; -1.6,1.655 -1.6,2.155 ; -1.6,1.655 -0.533,1.655 ; -1.6,1.655 -1.6,2.155 ; -1.6,1.655 1.6,1.655 1.6,2.155 -1.6,2.155 ; -1.6,2.155 -0.533,2.155 ; -1.6,2.925 -1.6,3.425 ; -1.6,2.925 -0.533,2.925 ; -1.6,2.925 -1.6,3.425 ; -1.6,2.925 1.6,2.925 1.6,3.425 -1.6,3.425 ; -1.6,3.425 -0.533,3.425 ; -0.533,-3.425 -0.533,-2.925 ; -0.533,-3.425 -0.533,-2.925 ; -0.533,-2.155 -0.533,-1.655 ; -0.533,-2.155 -0.533,-1.655 ; -0.533,-0.885 -0.533,-0.385 ; -0.533,-0.885 -0.533,-0.385 ; -0.533,0.385 -0.533,0.885 ; -0.533,0.385 -0.533,0.885 ; -0.533,1.655 -0.533,2.155 ; -0.533,1.655 -0.533,2.155 ; -0.533,2.925 -0.533,3.425 ; -0.533,2.925 -0.533,3.425 ; -2.25,-4.445 -2.25,3.445 -1.25,4.445 2.25,4.445 2.25,-4.445 -2.25,-4.445
  text "on" at 0.009,3.715 h0.46
Top Courtyard:
  lines w0.254: -3.95,-4.76 -3.95,4.76 3.95,4.76 3.95,-4.76 -3.95,-4.76
Top Designator:
  text ".Designator" at -0.345,3.432 h1.52
3D body "SW_DIP_SPSTx06_Slide_Omron_A6H-6101_W6.15mm_P1.27mm.step": height 1.55, standoff 0.03, extent -3.35,-4.425 3.35,4.425

## SW_DIP_SPSTx06_Slide_Omron_A6S-610x_W8.9mm_P2.54mm [mm] "SW_DIP_SPSTx06_Slide_Omron_A6S-610x_W8.9mm_P2.54mm"
pads (12):
  rrect23% 1.5x1.1 smd: 1(-4.45,6.35) 2(-4.45,3.81) 3(-4.45,1.27) 4(-4.45,-1.27) 5(-4.45,-3.81) 6(-4.45,-6.35) 7(4.45,-6.35) 8(4.45,-3.81) 9(4.45,-1.27) 10(4.45,1.27) 11(4.45,3.81) 12(4.45,6.35)
F.SilkS:
  lines w0.254: -5.2,7.2 -3.16,7.2 -3.16,8.15 3.16,8.15 3.16,6.41 ; -3.16,-6.41 -3.16,-8.15 3.16,-8.15 3.16,-6.41
Top Component Center:
  lines w0.127: -0.127,0 0.127,0 ; 0,-0.127 0,0.127
Top Assembly:
  lines w0.254: -1.5,-6.9 -1.5,-5.8 ; -1.5,-6.9 -0.5,-6.9 ; -1.5,-6.9 -1.5,-5.8 ; -1.5,-6.9 1.5,-6.9 1.5,-5.8 -1.5,-5.8 ; -1.5,-5.8 -0.5,-5.8 ; -1.5,-4.36 -1.5,-3.26 ; -1.5,-4.36 -0.5,-4.36 ; -1.5,-4.36 -1.5,-3.26 ; -1.5,-4.36 1.5,-4.36 1.5,-3.26 -1.5,-3.26 ; -1.5,-3.26 -0.5,-3.26 ; -1.5,-1.82 -1.5,-0.72 ; -1.5,-1.82 -0.5,-1.82 ; -1.5,-1.82 -1.5,-0.72 ; -1.5,-1.82 1.5,-1.82 1.5,-0.72 -1.5,-0.72 ; -1.5,-0.72 -0.5,-0.72 ; -1.5,0.72 -1.5,1.82 ; -1.5,0.72 -0.5,0.72 ; -1.5,0.72 -1.5,1.82 ; -1.5,0.72 1.5,0.72 1.5,1.82 -1.5,1.82 ; -1.5,1.82 -0.5,1.82 ; -1.5,3.26 -1.5,4.36 ; -1.5,3.26 -0.5,3.26 ; -1.5,3.26 -1.5,4.36 ; -1.5,3.26 1.5,3.26 1.5,4.36 -1.5,4.36 ; -1.5,4.36 -0.5,4.36 ; -1.5,5.8 -1.5,6.9 ; -1.5,5.8 -0.5,5.8 ; -1.5,5.8 -1.5,6.9 ; -1.5,5.8 1.5,5.8 1.5,6.9 -1.5,6.9 ; -1.5,6.9 -0.5,6.9 ; -0.5,-6.9 -0.5,-5.8 ; -0.5,-6.9 -0.5,-5.8 ; -0.5,-4.36 -0.5,-3.26 ; -0.5,-4.36 -0.5,-3.26 ; -0.5,-1.82 -0.5,-0.72 ; -0.5,-1.82 -0.5,-0.72 ; -0.5,0.72 -0.5,1.82 ; -0.5,0.72 -0.5,1.82 ; -0.5,3.26 -0.5,4.36 ; -0.5,3.26 -0.5,4.36 ; -0.5,5.8 -0.5,6.9 ; -0.5,5.8 -0.5,6.9 ; -3.1,-8.09 -3.1,7.09 -2.1,8.09 3.1,8.09 3.1,-8.09 -3.1,-8.09
  text "on" at -0.59,7.108 h0.8
Top Courtyard:
  lines w0.254: -5.45,-8.4 -5.45,8.4 5.45,8.4 5.45,-8.4 -5.45,-8.4
Top Designator:
  text ".Designator" at -2.631,3.432 h1.52
3D body "SW_DIP_SPSTx06_Slide_Omron_A6S-610x_W8.9mm_P2.54mm.step": height 3.1, standoff 0.03, extent -4.9,-8.09 4.9,8.09

## SW_DIP_SPSTx07_Slide_6.7x19.34mm_W6.73mm_P2.54mm_LowProfile_JPin [mm] "SW_DIP_SPSTx07_Slide_6.7x19.34mm_W6.73mm_P2.54mm_LowProfile_JPin"
pads (14):
  rrect22% 2.16x1.12 smd: 1(-3.365,7.62) 2(-3.365,5.08) 3(-3.365,2.54) 4(-3.365,0) 5(-3.365,-2.54) 6(-3.365,-5.08) 7(-3.365,-7.62) 8(3.365,-7.62) 9(3.365,-5.08) 10(3.365,-2.54) 11(3.365,0) 12(3.365,2.54) 13(3.365,5.08) 14(3.365,7.62)
F.SilkS:
  lines w0.254: -3.65,8.587 -3.65,9.97 -2.267,9.97 ; -3.41,-8.42 -3.41,-9.73 3.41,-9.73 3.41,-8.42 ; -3.41,-6.82 -3.41,-5.88 ; -3.41,-4.28 -3.41,-3.34 ; -3.41,-1.74 -3.41,-0.8 ; -3.41,0.8 -3.41,1.74 ; -3.41,3.34 -3.41,4.28 ; -3.41,5.88 -3.41,6.82 ; -3.41,8.42 -3.41,9.73 3.41,9.73 3.41,8.42 ; 3.41,-6.82 3.41,-5.88 ; 3.41,-4.28 3.41,-3.34 ; 3.41,-1.74 3.41,-0.8 ; 3.41,0.8 3.41,1.74 ; 3.41,3.34 3.41,4.28 ; 3.41,5.88 3.41,6.82 ; -1.81,-8.255 1.81,-8.255 1.81,-6.985 -1.81,-6.985 ; -1.81,-8.255 -1.81,-6.985 ; -1.81,-8.255 -0.603,-8.255 ; -1.81,-8.255 -1.81,-6.985 ; -1.81,-6.985 -0.603,-6.985 ; -1.81,-5.715 1.81,-5.715 1.81,-4.445 -1.81,-4.445 ; -1.81,-5.715 -1.81,-4.445 ; -1.81,-5.715 -0.603,-5.715 ; -1.81,-5.715 -1.81,-4.445 ; -1.81,-4.445 -0.603,-4.445 ; -1.81,-3.175 1.81,-3.175 1.81,-1.905 -1.81,-1.905 ; -1.81,-3.175 -1.81,-1.905 ; -1.81,-3.175 -0.603,-3.175 ; -1.81,-3.175 -1.81,-1.905 ; -1.81,-1.905 -0.603,-1.905 ; -1.81,-0.635 1.81,-0.635 1.81,0.635 -1.81,0.635 ; -1.81,-0.635 -1.81,0.635 ; -1.81,-0.635 -0.603,-0.635 ; -1.81,-0.635 -1.81,0.635 ; -1.81,0.635 -0.603,0.635 ; -1.81,1.905 1.81,1.905 1.81,3.175 -1.81,3.175 ; -1.81,1.905 -1.81,3.175 ; -1.81,1.905 -0.603,1.905 ; -1.81,1.905 -1.81,3.175 ; -1.81,3.175 -0.603,3.175 ; -1.81,4.445 1.81,4.445 1.81,5.715 -1.81,5.715 ; -1.81,4.445 -1.81,5.715 ; -1.81,4.445 -0.603,4.445 ; -1.81,4.445 -1.81,5.715 ; -1.81,5.715 -0.603,5.715 ; -1.81,6.985 1.81,6.985 1.81,8.255 -1.81,8.255 ; -1.81,6.985 -1.81,8.255 ; -1.81,6.985 -0.603,6.985 ; -1.81,6.985 -1.81,8.255 ; -1.81,8.255 -0.603,8.255 ; -0.603,-8.255 -0.603,-6.985 ; -0.603,-8.255 -0.603,-6.985 ; -0.603,-5.715 -0.603,-4.445 ; -0.603,-5.715 -0.603,-4.445 ; -0.603,-3.175 -0.603,-1.905 ; -0.603,-3.175 -0.603,-1.905 ; -0.603,-0.635 -0.603,0.635 ; -0.603,-0.635 -0.603,0.635 ; -0.603,1.905 -0.603,3.175 ; -0.603,1.905 -0.603,3.175 ; -0.603,4.445 -0.603,5.715 ; -0.603,4.445 -0.603,5.715 ; -0.603,6.985 -0.603,8.255 ; -0.603,6.985 -0.603,8.255
Top Component Center:
  lines w0.127: -0.127,0 0.127,0 ; 0,-0.127 0,0.127
Top Assembly:
  lines w0.254: -1.81,-8.255 1.81,-8.255 1.81,-6.985 -1.81,-6.985 ; -1.81,-8.255 -1.81,-6.985 ; -1.81,-8.255 -0.603,-8.255 ; -1.81,-8.255 -1.81,-6.985 ; -1.81,-6.985 -0.603,-6.985 ; -1.81,-5.715 1.81,-5.715 1.81,-4.445 -1.81,-4.445 ; -1.81,-5.715 -1.81,-4.445 ; -1.81,-5.715 -0.603,-5.715 ; -1.81,-5.715 -1.81,-4.445 ; -1.81,-4.445 -0.603,-4.445 ; -1.81,-3.175 1.81,-3.175 1.81,-1.905 -1.81,-1.905 ; -1.81,-3.175 -1.81,-1.905 ; -1.81,-3.175 -0.603,-3.175 ; -1.81,-3.175 -1.81,-1.905 ; -1.81,-1.905 -0.603,-1.905 ; -1.81,-0.635 1.81,-0.635 1.81,0.635 -1.81,0.635 ; -1.81,-0.635 -1.81,0.635 ; -1.81,-0.635 -0.603,-0.635 ; -1.81,-0.635 -1.81,0.635 ; -1.81,0.635 -0.603,0.635 ; -1.81,1.905 1.81,1.905 1.81,3.175 -1.81,3.175 ; -1.81,1.905 -1.81,3.175 ; -1.81,1.905 -0.603,1.905 ; -1.81,1.905 -1.81,3.175 ; -1.81,3.175 -0.603,3.175 ; -1.81,4.445 1.81,4.445 1.81,5.715 -1.81,5.715 ; -1.81,4.445 -1.81,5.715 ; -1.81,4.445 -0.603,4.445 ; -1.81,4.445 -1.81,5.715 ; -1.81,5.715 -0.603,5.715 ; -1.81,6.985 1.81,6.985 1.81,8.255 -1.81,8.255 ; -1.81,6.985 -1.81,8.255 ; -1.81,6.985 -0.603,6.985 ; -1.81,6.985 -1.81,8.255 ; -1.81,8.255 -0.603,8.255 ; -0.603,-8.255 -0.603,-6.985 ; -0.603,-8.255 -0.603,-6.985 ; -0.603,-5.715 -0.603,-4.445 ; -0.603,-5.715 -0.603,-4.445 ; -0.603,-3.175 -0.603,-1.905 ; -0.603,-3.175 -0.603,-1.905 ; -0.603,-0.635 -0.603,0.635 ; -0.603,-0.635 -0.603,0.635 ; -0.603,1.905 -0.603,3.175 ; -0.603,1.905 -0.603,3.175 ; -0.603,4.445 -0.603,5.715 ; -0.603,4.445 -0.603,5.715 ; -0.603,6.985 -0.603,8.255 ; -0.603,6.985 -0.603,8.255 ; -3.35,-9.67 3.35,-9.67 3.35,9.67 -2.35,9.67 -3.35,8.67 -3.35,-9.67
  text "on" at 0.233,8.576 h0.8
Top Courtyard:
  lines w0.254: -4.7,-9.98 4.7,-9.98 4.7,9.98 -4.7,9.98 -4.7,-9.98
Top Designator:
  text ".Designator" at -3.432,0.925 h1.52
3D body "SW_DIP_SPSTx07_Slide_6.7x19.34mm_W6.73mm_P2.54mm_LowProfile_JPin.step": height 3.2, standoff -0.1, extent -3.45,-9.67 3.45,9.67

## SW_DIP_SPSTx07_Slide_6.7x19.34mm_W8.61mm_P2.54mm_LowProfile [mm] "SW_DIP_SPSTx07_Slide_6.7x19.34mm_W8.61mm_P2.54mm_LowProfile"
pads (14):
  rrect22% 2.44x1.12 smd: 1(-4.305,7.62) 2(-4.305,5.08) 3(-4.305,2.54) 4(-4.305,0) 5(-4.305,-2.54) 6(-4.305,-5.08) 7(-4.305,-7.62) 8(4.305,-7.62) 9(4.305,-5.08) 10(4.305,-2.54) 11(4.305,0) 12(4.305,2.54) 13(4.305,5.08) 14(4.305,7.62)
F.SilkS:
  lines w0.254: -3.65,8.587 -3.65,9.97 -2.267,9.97 ; -3.41,-8.42 -3.41,-9.73 3.41,-9.73 3.41,-8.42 ; -3.41,-6.82 -3.41,-5.88 ; -3.41,-4.28 -3.41,-3.34 ; -3.41,-1.74 -3.41,-0.8 ; -3.41,0.8 -3.41,1.74 ; -3.41,3.34 -3.41,4.28 ; -3.41,5.88 -3.41,6.82 ; -3.41,8.42 -3.41,9.73 3.41,9.73 3.41,8.42 ; 3.41,-6.82 3.41,-5.88 ; 3.41,-4.28 3.41,-3.34 ; 3.41,-1.74 3.41,-0.8 ; 3.41,0.8 3.41,1.74 ; 3.41,3.34 3.41,4.28 ; 3.41,5.88 3.41,6.82 ; -1.81,-8.255 -1.81,-6.985 ; -1.81,-8.255 -0.603,-8.255 ; -1.81,-8.255 -1.81,-6.985 ; -1.81,-8.255 1.81,-8.255 1.81,-6.985 -1.81,-6.985 ; -1.81,-6.985 -0.603,-6.985 ; -1.81,-5.715 -1.81,-4.445 ; -1.81,-5.715 -0.603,-5.715 ; -1.81,-5.715 -1.81,-4.445 ; -1.81,-5.715 1.81,-5.715 1.81,-4.445 -1.81,-4.445 ; -1.81,-4.445 -0.603,-4.445 ; -1.81,-3.175 -1.81,-1.905 ; -1.81,-3.175 -0.603,-3.175 ; -1.81,-3.175 -1.81,-1.905 ; -1.81,-3.175 1.81,-3.175 1.81,-1.905 -1.81,-1.905 ; -1.81,-1.905 -0.603,-1.905 ; -1.81,-0.635 -1.81,0.635 ; -1.81,-0.635 -0.603,-0.635 ; -1.81,-0.635 -1.81,0.635 ; -1.81,-0.635 1.81,-0.635 1.81,0.635 -1.81,0.635 ; -1.81,0.635 -0.603,0.635 ; -1.81,1.905 -1.81,3.175 ; -1.81,1.905 -0.603,1.905 ; -1.81,1.905 -1.81,3.175 ; -1.81,1.905 1.81,1.905 1.81,3.175 -1.81,3.175 ; -1.81,3.175 -0.603,3.175 ; -1.81,4.445 -1.81,5.715 ; -1.81,4.445 -0.603,4.445 ; -1.81,4.445 -1.81,5.715 ; -1.81,4.445 1.81,4.445 1.81,5.715 -1.81,5.715 ; -1.81,5.715 -0.603,5.715 ; -1.81,6.985 -1.81,8.255 ; -1.81,6.985 -0.603,6.985 ; -1.81,6.985 -1.81,8.255 ; -1.81,6.985 1.81,6.985 1.81,8.255 -1.81,8.255 ; -1.81,8.255 -0.603,8.255 ; -0.603,-8.255 -0.603,-6.985 ; -0.603,-8.255 -0.603,-6.985 ; -0.603,-5.715 -0.603,-4.445 ; -0.603,-5.715 -0.603,-4.445 ; -0.603,-3.175 -0.603,-1.905 ; -0.603,-3.175 -0.603,-1.905 ; -0.603,-0.635 -0.603,0.635 ; -0.603,-0.635 -0.603,0.635 ; -0.603,1.905 -0.603,3.175 ; -0.603,1.905 -0.603,3.175 ; -0.603,4.445 -0.603,5.715 ; -0.603,4.445 -0.603,5.715 ; -0.603,6.985 -0.603,8.255 ; -0.603,6.985 -0.603,8.255
Top Component Center:
  lines w0.127: -0.127,0 0.127,0 ; 0,-0.127 0,0.127
Top Assembly:
  lines w0.254: -1.81,-8.255 -1.81,-6.985 ; -1.81,-8.255 -0.603,-8.255 ; -1.81,-8.255 -1.81,-6.985 ; -1.81,-8.255 1.81,-8.255 1.81,-6.985 -1.81,-6.985 ; -1.81,-6.985 -0.603,-6.985 ; -1.81,-5.715 -1.81,-4.445 ; -1.81,-5.715 -0.603,-5.715 ; -1.81,-5.715 -1.81,-4.445 ; -1.81,-5.715 1.81,-5.715 1.81,-4.445 -1.81,-4.445 ; -1.81,-4.445 -0.603,-4.445 ; -1.81,-3.175 -1.81,-1.905 ; -1.81,-3.175 -0.603,-3.175 ; -1.81,-3.175 -1.81,-1.905 ; -1.81,-3.175 1.81,-3.175 1.81,-1.905 -1.81,-1.905 ; -1.81,-1.905 -0.603,-1.905 ; -1.81,-0.635 -1.81,0.635 ; -1.81,-0.635 -0.603,-0.635 ; -1.81,-0.635 -1.81,0.635 ; -1.81,-0.635 1.81,-0.635 1.81,0.635 -1.81,0.635 ; -1.81,0.635 -0.603,0.635 ; -1.81,1.905 -1.81,3.175 ; -1.81,1.905 -0.603,1.905 ; -1.81,1.905 -1.81,3.175 ; -1.81,1.905 1.81,1.905 1.81,3.175 -1.81,3.175 ; -1.81,3.175 -0.603,3.175 ; -1.81,4.445 -1.81,5.715 ; -1.81,4.445 -0.603,4.445 ; -1.81,4.445 -1.81,5.715 ; -1.81,4.445 1.81,4.445 1.81,5.715 -1.81,5.715 ; -1.81,5.715 -0.603,5.715 ; -1.81,6.985 -1.81,8.255 ; -1.81,6.985 -0.603,6.985 ; -1.81,6.985 -1.81,8.255 ; -1.81,6.985 1.81,6.985 1.81,8.255 -1.81,8.255 ; -1.81,8.255 -0.603,8.255 ; -0.603,-8.255 -0.603,-6.985 ; -0.603,-8.255 -0.603,-6.985 ; -0.603,-5.715 -0.603,-4.445 ; -0.603,-5.715 -0.603,-4.445 ; -0.603,-3.175 -0.603,-1.905 ; -0.603,-3.175 -0.603,-1.905 ; -0.603,-0.635 -0.603,0.635 ; -0.603,-0.635 -0.603,0.635 ; -0.603,1.905 -0.603,3.175 ; -0.603,1.905 -0.603,3.175 ; -0.603,4.445 -0.603,5.715 ; -0.603,4.445 -0.603,5.715 ; -0.603,6.985 -0.603,8.255 ; -0.603,6.985 -0.603,8.255 ; -3.35,-9.67 -3.35,8.67 -2.35,9.67 3.35,9.67 3.35,-9.67 -3.35,-9.67
  text "on" at -0.237,8.576 h0.8
Top Courtyard:
  lines w0.254: -5.78,-9.98 -5.78,9.98 5.78,9.98 5.78,-9.98 -5.78,-9.98
Top Designator:
  text ".Designator" at -3.432,0.925 h1.52
3D body "SW_DIP_SPSTx07_Slide_6.7x19.34mm_W8.61mm_P2.54mm_LowProfile.step": height 2.7, standoff 0, extent -4.305,-9.67 4.305,9.67

## SW_DIP_SPSTx07_Slide_9.78x19.96mm_W8.61mm_P2.54mm [mm] "SW_DIP_SPSTx07_Slide_9.78x19.96mm_W8.61mm_P2.54mm"
pads (14):
  rrect22% 2.44x1.12 smd: 1(-4.305,7.62) 2(-4.305,5.08) 3(-4.305,2.54) 4(-4.305,0) 5(-4.305,-2.54) 6(-4.305,-5.08) 7(-4.305,-7.62) 8(4.305,-7.62) 9(4.305,-5.08) 10(4.305,-2.54) 11(4.305,0) 12(4.305,2.54) 13(4.305,5.08) 14(4.305,7.62)
F.SilkS:
  lines w0.254: -5.19,8.897 -5.19,10.28 -3.807,10.28 ; -4.95,-8.42 -4.95,-10.04 4.95,-10.04 4.95,-8.42 ; -4.95,-6.82 -4.95,-5.88 ; -4.95,-4.28 -4.95,-3.34 ; -4.95,-1.74 -4.95,-0.8 ; -4.95,0.8 -4.95,1.74 ; -4.95,3.34 -4.95,4.28 ; -4.95,5.88 -4.95,6.82 ; -4.95,8.42 -4.95,10.04 4.95,10.04 4.95,8.42 ; 4.95,-6.82 4.95,-5.88 ; 4.95,-4.28 4.95,-3.34 ; 4.95,-1.74 4.95,-0.8 ; 4.95,0.8 4.95,1.74 ; 4.95,3.34 4.95,4.28 ; 4.95,5.88 4.95,6.82 ; -2.03,-8.255 -2.03,-6.985 ; -2.03,-8.255 -0.677,-8.255 ; -2.03,-8.255 -2.03,-6.985 ; -2.03,-8.255 2.03,-8.255 2.03,-6.985 -2.03,-6.985 ; -2.03,-6.985 -0.677,-6.985 ; -2.03,-5.715 -2.03,-4.445 ; -2.03,-5.715 -0.677,-5.715 ; -2.03,-5.715 -2.03,-4.445 ; -2.03,-5.715 2.03,-5.715 2.03,-4.445 -2.03,-4.445 ; -2.03,-4.445 -0.677,-4.445 ; -2.03,-3.175 -2.03,-1.905 ; -2.03,-3.175 -0.677,-3.175 ; -2.03,-3.175 -2.03,-1.905 ; -2.03,-3.175 2.03,-3.175 2.03,-1.905 -2.03,-1.905 ; -2.03,-1.905 -0.677,-1.905 ; -2.03,-0.635 -2.03,0.635 ; -2.03,-0.635 -0.677,-0.635 ; -2.03,-0.635 -2.03,0.635 ; -2.03,-0.635 2.03,-0.635 2.03,0.635 -2.03,0.635 ; -2.03,0.635 -0.677,0.635 ; -2.03,1.905 -2.03,3.175 ; -2.03,1.905 -0.677,1.905 ; -2.03,1.905 -2.03,3.175 ; -2.03,1.905 2.03,1.905 2.03,3.175 -2.03,3.175 ; -2.03,3.175 -0.677,3.175 ; -2.03,4.445 -2.03,5.715 ; -2.03,4.445 -0.677,4.445 ; -2.03,4.445 -2.03,5.715 ; -2.03,4.445 2.03,4.445 2.03,5.715 -2.03,5.715 ; -2.03,5.715 -0.677,5.715 ; -2.03,6.985 -2.03,8.255 ; -2.03,6.985 -0.677,6.985 ; -2.03,6.985 -2.03,8.255 ; -2.03,6.985 2.03,6.985 2.03,8.255 -2.03,8.255 ; -2.03,8.255 -0.677,8.255 ; -0.677,-8.255 -0.677,-6.985 ; -0.677,-8.255 -0.677,-6.985 ; -0.677,-5.715 -0.677,-4.445 ; -0.677,-5.715 -0.677,-4.445 ; -0.677,-3.175 -0.677,-1.905 ; -0.677,-3.175 -0.677,-1.905 ; -0.677,-0.635 -0.677,0.635 ; -0.677,-0.635 -0.677,0.635 ; -0.677,1.905 -0.677,3.175 ; -0.677,1.905 -0.677,3.175 ; -0.677,4.445 -0.677,5.715 ; -0.677,4.445 -0.677,5.715 ; -0.677,6.985 -0.677,8.255 ; -0.677,6.985 -0.677,8.255
Top Component Center:
  lines w0.127: -0.127,0 0.127,0 ; 0,-0.127 0,0.127
Top Assembly:
  lines w0.254: -2.03,-8.255 -2.03,-6.985 ; -2.03,-8.255 -0.677,-8.255 ; -2.03,-8.255 -2.03,-6.985 ; -2.03,-8.255 2.03,-8.255 2.03,-6.985 -2.03,-6.985 ; -2.03,-6.985 -0.677,-6.985 ; -2.03,-5.715 -2.03,-4.445 ; -2.03,-5.715 -0.677,-5.715 ; -2.03,-5.715 -2.03,-4.445 ; -2.03,-5.715 2.03,-5.715 2.03,-4.445 -2.03,-4.445 ; -2.03,-4.445 -0.677,-4.445 ; -2.03,-3.175 -2.03,-1.905 ; -2.03,-3.175 -0.677,-3.175 ; -2.03,-3.175 -2.03,-1.905 ; -2.03,-3.175 2.03,-3.175 2.03,-1.905 -2.03,-1.905 ; -2.03,-1.905 -0.677,-1.905 ; -2.03,-0.635 -2.03,0.635 ; -2.03,-0.635 -0.677,-0.635 ; -2.03,-0.635 -2.03,0.635 ; -2.03,-0.635 2.03,-0.635 2.03,0.635 -2.03,0.635 ; -2.03,0.635 -0.677,0.635 ; -2.03,1.905 -2.03,3.175 ; -2.03,1.905 -0.677,1.905 ; -2.03,1.905 -2.03,3.175 ; -2.03,1.905 2.03,1.905 2.03,3.175 -2.03,3.175 ; -2.03,3.175 -0.677,3.175 ; -2.03,4.445 -2.03,5.715 ; -2.03,4.445 -0.677,4.445 ; -2.03,4.445 -2.03,5.715 ; -2.03,4.445 2.03,4.445 2.03,5.715 -2.03,5.715 ; -2.03,5.715 -0.677,5.715 ; -2.03,6.985 -2.03,8.255 ; -2.03,6.985 -0.677,6.985 ; -2.03,6.985 -2.03,8.255 ; -2.03,6.985 2.03,6.985 2.03,8.255 -2.03,8.255 ; -2.03,8.255 -0.677,8.255 ; -0.677,-8.255 -0.677,-6.985 ; -0.677,-8.255 -0.677,-6.985 ; -0.677,-5.715 -0.677,-4.445 ; -0.677,-5.715 -0.677,-4.445 ; -0.677,-3.175 -0.677,-1.905 ; -0.677,-3.175 -0.677,-1.905 ; -0.677,-0.635 -0.677,0.635 ; -0.677,-0.635 -0.677,0.635 ; -0.677,1.905 -0.677,3.175 ; -0.677,1.905 -0.677,3.175 ; -0.677,4.445 -0.677,5.715 ; -0.677,4.445 -0.677,5.715 ; -0.677,6.985 -0.677,8.255 ; -0.677,6.985 -0.677,8.255 ; -4.89,-9.98 -4.89,8.98 -3.89,9.98 4.89,9.98 4.89,-9.98 -4.89,-9.98
  text "on" at 0.643,8.731 h0.8
Top Courtyard:
  lines w0.254: -5.78,-10.29 -5.78,10.29 5.78,10.29 5.78,-10.29 -5.78,-10.29
Top Designator:
  text ".Designator" at -3.432,0.925 h1.52
3D body "SW_DIP_SPSTx07_Slide_9.78x19.96mm_W8.61mm_P2.54mm.step": height 8.6, standoff 0, extent -5.2,-9.98 5.2,9.98

## SW_DIP_SPSTx07_Slide_KingTek_DSHP07TJ_W5.25mm_P1.27mm_JPin [mm] "SW_DIP_SPSTx07_Slide_KingTek_DSHP07TJ_W5.25mm_P1.27mm_JPin"
pads (14):
  rrect25% 2.65x0.76 smd: 1(-2.625,3.81) 2(-2.625,2.54) 3(-2.625,1.27) 4(-2.625,0) 5(-2.625,-1.27) 6(-2.625,-2.54) 7(-2.625,-3.81) 8(2.625,-3.81) 9(2.625,-2.54) 10(2.625,-1.27) 11(2.625,0) 12(2.625,1.27) 13(2.625,2.54) 14(2.625,3.81)
F.SilkS:
  lines w0.254: -3.95,4.49 -2.76,4.49 -2.76,5.405 2.76,5.405 2.76,4.43 ; -2.76,-4.43 -2.76,-5.405 2.76,-5.405 2.76,-4.43
Top Component Center:
  lines w0.127: -0.127,0 0.127,0 ; 0,-0.127 0,0.127
Top Assembly:
  lines w0.254: -1,-4.21 -1,-3.41 ; -1,-4.21 -0.333,-4.21 ; -1,-4.21 -1,-3.41 ; -1,-4.21 1,-4.21 1,-3.41 -1,-3.41 ; -1,-3.41 -0.333,-3.41 ; -1,-2.94 -1,-2.14 ; -1,-2.94 -0.333,-2.94 ; -1,-2.94 -1,-2.14 ; -1,-2.94 1,-2.94 1,-2.14 -1,-2.14 ; -1,-2.14 -0.333,-2.14 ; -1,-1.67 -1,-0.87 ; -1,-1.67 -0.333,-1.67 ; -1,-1.67 -1,-0.87 ; -1,-1.67 1,-1.67 1,-0.87 -1,-0.87 ; -1,-0.87 -0.333,-0.87 ; -1,-0.4 -1,0.4 ; -1,-0.4 -0.333,-0.4 ; -1,-0.4 -1,0.4 ; -1,-0.4 1,-0.4 1,0.4 -1,0.4 ; -1,0.4 -0.333,0.4 ; -1,0.87 -1,1.67 ; -1,0.87 -0.333,0.87 ; -1,0.87 -1,1.67 ; -1,0.87 1,0.87 1,1.67 -1,1.67 ; -1,1.67 -0.333,1.67 ; -1,2.14 -1,2.94 ; -1,2.14 -0.333,2.14 ; -1,2.14 -1,2.94 ; -1,2.14 1,2.14 1,2.94 -1,2.94 ; -1,2.94 -0.333,2.94 ; -1,3.41 -1,4.21 ; -1,3.41 -0.333,3.41 ; -1,3.41 -1,4.21 ; -1,3.41 1,3.41 1,4.21 -1,4.21 ; -1,4.21 -0.333,4.21 ; -0.333,-4.21 -0.333,-3.41 ; -0.333,-4.21 -0.333,-3.41 ; -0.333,-2.94 -0.333,-2.14 ; -0.333,-2.94 -0.333,-2.14 ; -0.333,-1.67 -0.333,-0.87 ; -0.333,-1.67 -0.333,-0.87 ; -0.333,-0.4 -0.333,0.4 ; -0.333,-0.4 -0.333,0.4 ; -0.333,0.87 -0.333,1.67 ; -0.333,0.87 -0.333,1.67 ; -0.333,2.14 -0.333,2.94 ; -0.333,2.14 -0.333,2.94 ; -0.333,3.41 -0.333,4.21 ; -0.333,3.41 -0.333,4.21 ; -2.7,-5.345 -2.7,4.345 -1.7,5.345 2.7,5.345 2.7,-5.345 -2.7,-5.345
  text "on" at -0.127,4.391 h0.8
Top Courtyard:
  lines w0.254: -4.2,-5.66 -4.2,5.66 4.2,5.66 4.2,-5.66 -4.2,-5.66
Top Designator:
  text ".Designator" at -0.345,3.432 h1.52
3D body "SW_DIP_SPSTx07_Slide_KingTek_DSHP07TJ_W5.25mm_P1.27mm_JPin.step": height 2.4, standoff -0.05, extent -2.8,-5.245 2.8,5.245

## SW_DIP_SPSTx07_Slide_KingTek_DSHP07TS_W7.62mm_P1.27mm [mm] "SW_DIP_SPSTx07_Slide_KingTek_DSHP07TS_W7.62mm_P1.27mm"
pads (14):
  rrect25% 1.27x0.76 smd: 1(-3.81,3.81) 2(-3.81,2.54) 3(-3.81,1.27) 4(-3.81,0) 5(-3.81,-1.27) 6(-3.81,-2.54) 7(-3.81,-3.81) 8(3.81,-3.81) 9(3.81,-2.54) 10(3.81,-1.27) 11(3.81,0) 12(3.81,1.27) 13(3.81,2.54) 14(3.81,3.81)
F.SilkS:
  lines w0.254: -4.445,4.49 -2.76,4.49 -2.76,5.305 2.76,5.305 2.76,3.87 ; -2.76,-3.87 -2.76,-5.305 2.76,-5.305 2.76,-3.87
Top Component Center:
  lines w0.127: -0.127,0 0.127,0 ; 0,-0.127 0,0.127
Top Assembly:
  lines w0.254: -1,-4.21 -1,-3.41 ; -1,-4.21 -0.333,-4.21 ; -1,-4.21 -1,-3.41 ; -1,-4.21 1,-4.21 1,-3.41 -1,-3.41 ; -1,-3.41 -0.333,-3.41 ; -1,-2.94 -1,-2.14 ; -1,-2.94 -0.333,-2.94 ; -1,-2.94 -1,-2.14 ; -1,-2.94 1,-2.94 1,-2.14 -1,-2.14 ; -1,-2.14 -0.333,-2.14 ; -1,-1.67 -1,-0.87 ; -1,-1.67 -0.333,-1.67 ; -1,-1.67 -1,-0.87 ; -1,-1.67 1,-1.67 1,-0.87 -1,-0.87 ; -1,-0.87 -0.333,-0.87 ; -1,-0.4 -1,0.4 ; -1,-0.4 -0.333,-0.4 ; -1,-0.4 -1,0.4 ; -1,-0.4 1,-0.4 1,0.4 -1,0.4 ; -1,0.4 -0.333,0.4 ; -1,0.87 -1,1.67 ; -1,0.87 -0.333,0.87 ; -1,0.87 -1,1.67 ; -1,0.87 1,0.87 1,1.67 -1,1.67 ; -1,1.67 -0.333,1.67 ; -1,2.14 -1,2.94 ; -1,2.14 -0.333,2.14 ; -1,2.14 -1,2.94 ; -1,2.14 1,2.14 1,2.94 -1,2.94 ; -1,2.94 -0.333,2.94 ; -1,3.41 -1,4.21 ; -1,3.41 -0.333,3.41 ; -1,3.41 -1,4.21 ; -1,3.41 1,3.41 1,4.21 -1,4.21 ; -1,4.21 -0.333,4.21 ; -0.333,-4.21 -0.333,-3.41 ; -0.333,-4.21 -0.333,-3.41 ; -0.333,-2.94 -0.333,-2.14 ; -0.333,-2.94 -0.333,-2.14 ; -0.333,-1.67 -0.333,-0.87 ; -0.333,-1.67 -0.333,-0.87 ; -0.333,-0.4 -0.333,0.4 ; -0.333,-0.4 -0.333,0.4 ; -0.333,0.87 -0.333,1.67 ; -0.333,0.87 -0.333,1.67 ; -0.333,2.14 -0.333,2.94 ; -0.333,2.14 -0.333,2.94 ; -0.333,3.41 -0.333,4.21 ; -0.333,3.41 -0.333,4.21 ; -2.7,-5.245 -2.7,4.245 -1.7,5.245 2.7,5.245 2.7,-5.245 -2.7,-5.245
  text "on" at -0.72,4.341 h0.8
Top Courtyard:
  lines w0.254: -4.7,-5.56 -4.7,5.56 4.7,5.56 4.7,-5.56 -4.7,-5.56
Top Designator:
  text ".Designator" at -2.25,3.559 h1.52
3D body "SW_DIP_SPSTx07_Slide_KingTek_DSHP07TS_W7.62mm_P1.27mm.step": height 2.45, standoff 0.08, extent -4.175,-5.245 4.175,5.245